# EAGLE library part OLED_SPI_128X64 (library me)
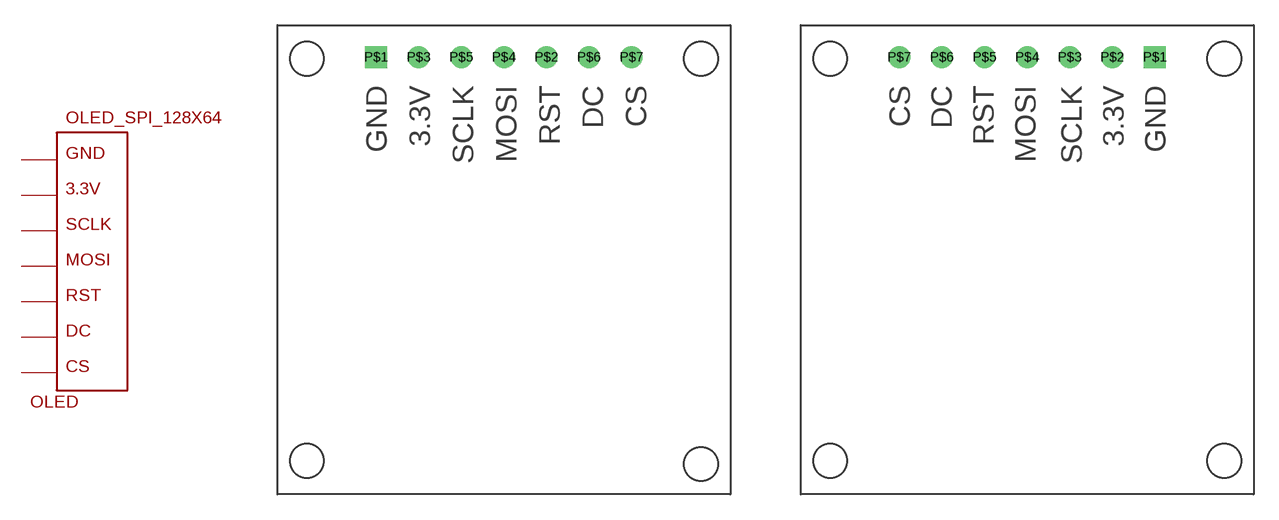
[diagram p16: symbol with the pads of OLED_SPI; footprints OLED_SPI, OLED_SPI_BOTTOM]

Designator prefix OLED

## OLED_SPI_128X64  [OLED_SPI]
P$1  P$1
P$2  P$2
P$3  P$3
P$4  P$4
P$5  P$5
P$6  P$6
P$7  P$7

## OLED_SPI_128X64OLED_SPI_BOTTOM  [OLED_SPI_BOTTOM]
Pads as for OLED_SPI

## Footprint OLED_SPI (pad centres in mm)
drill 0.8 square: P$1 -7.62,12.7
drill 0.8: P$2 2.54,12.7; P$3 -5.08,12.7; P$4 0,12.7; P$5 -2.54,12.7; P$6 5.08,12.7; P$7 7.62,12.7

## Footprint OLED_SPI_BOTTOM (pad centres in mm)
drill 0.8 square: P$1 7.62,12.7
drill 0.8: P$2 5.08,12.7; P$3 2.54,12.7; P$4 0,12.7; P$5 -2.54,12.7; P$6 -5.08,12.7; P$7 -7.62,12.7